# EAGLE library part ALM32220 (library ALM32220)
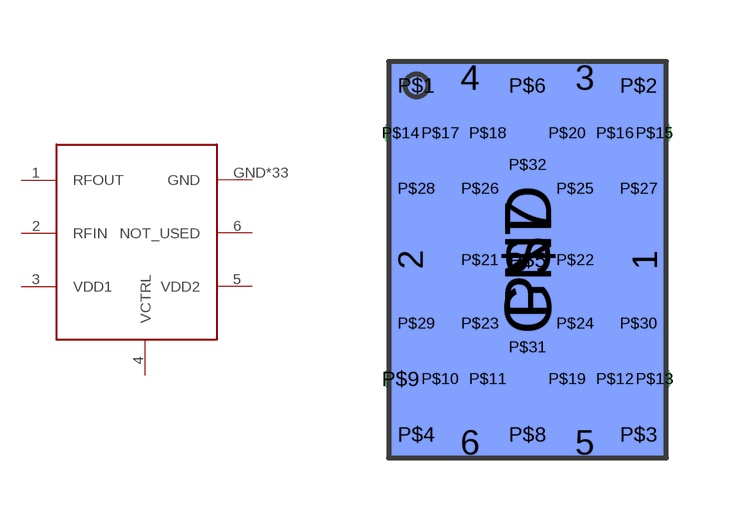
[diagram p0: symbol with the pads of ALM32220; footprint ALM32220]

Designator prefix -

## ALM32220  [ALM32220]
1  RFOUT
2  RFIN
3  VDD1
4  VCTRL
5  VDD2
6  NOT_USED
GND  GND
P$1  GND
P$2  GND
P$3  GND
P$4  GND
P$5  GND
P$6  GND
P$7  GND
P$8  GND
P$9  GND
P$10  GND
P$11  GND
P$12  GND
P$13  GND
P$14  GND
P$15  GND
P$16  GND
P$17  GND
P$18  GND
P$19  GND
P$20  GND
P$21  GND
P$22  GND
P$23  GND
P$24  GND
P$25  GND
P$26  GND
P$27  GND
P$28  GND
P$29  GND
P$30  GND
P$31  GND
P$32  GND

## Footprint ALM32220 (pad centres in mm)
smd 0.9 x 1.1: 1 2.95,0; 2 -2.95,0
smd 0.9 x 0.9: 3 1.45,4.6; 4 -1.45,4.6; 5 1.45,-4.6; 6 -1.45,-4.6
smd 7 x 10 bottom: GND 0,0
drill 0.343 pad 0.406: P$1 -2.8,4.4; P$2 2.8,4.4; P$3 2.8,-4.4; P$4 -2.8,-4.4; P$5 0,0; P$6 0,4.4; P$8 0,-4.4; P$9 -3.2,-3; P$10 -2.2,-3; P$11 -1,-3; P$12 2.2,-3; P$13 3.2,-3; P$14 -3.2,3.2; P$15 3.2,3.2; P$16 2.2,3.2; P$17 -2.2,3.2; P$18 -1,3.2; P$19 1,-3; P$20 1,3.2; P$21 -1.2,0; P$22 1.2,0; P$23 -1.2,-1.6; P$24 1.2,-1.6; P$25 1.2,1.8; P$26 -1.2,1.8; P$27 2.8,1.8; P$28 -2.8,1.8; P$29 -2.8,-1.6; P$30 2.8,-1.6; P$31 0,-2.2; P$32 0,2.4
smd 4.4 x 7.6: P$7 0,0